# Altium footprint library Sensor Package.PcbLib: 43 footprints (part 2 of 3)
Each footprint in its own frame and in the unit in brackets; x right, y up, seen from the top. Pads: shape width x height; smd on the part's side, far side on the other; paste and mask are expansions set on the pad; w line width, h text height; cw(c..) or ccw(c..) is an arc to the next point about the centre after c.
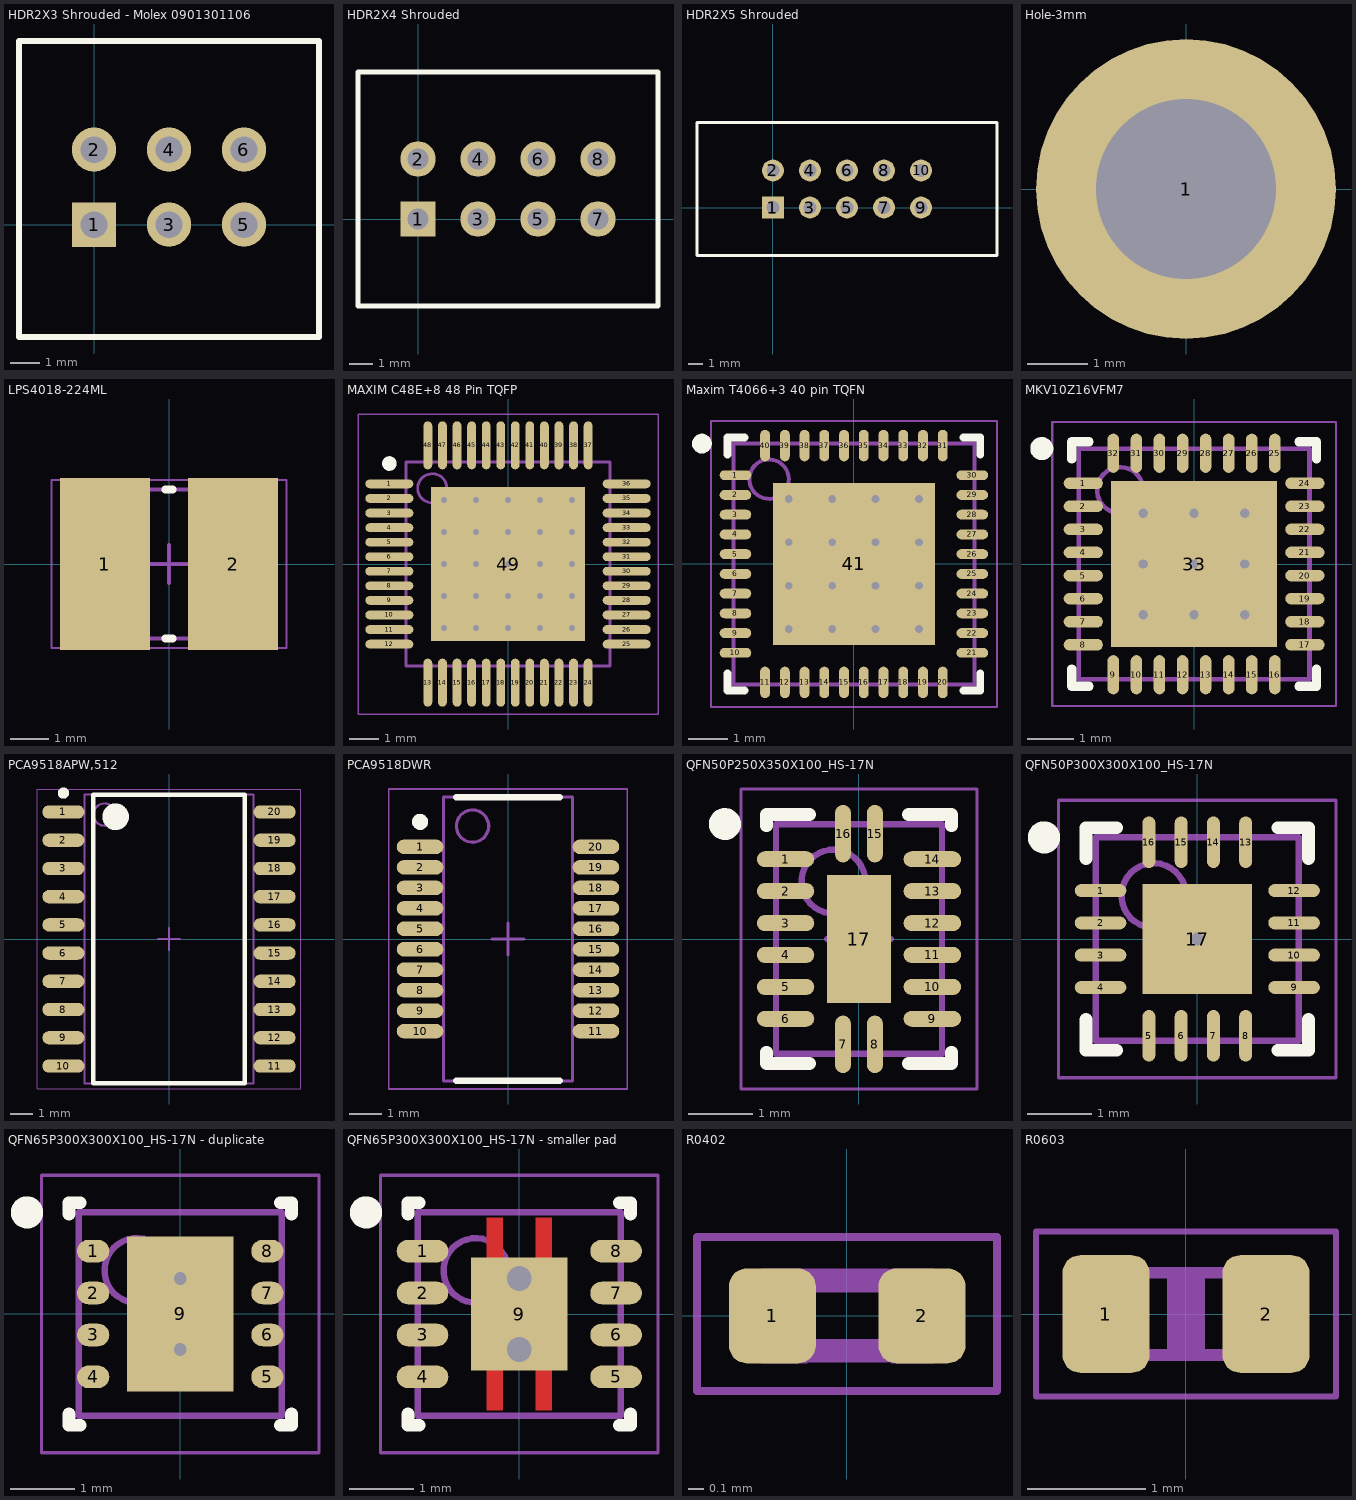
[diagram p1: the footprints below, top view; thin cyan lines are the x and y axes]

## HDR2X3 Shrouded - Molex 0901301106 [mm] "Connector; Header; 3x2 Position Molex 0901301106"
pads (6):
  rect 1.5x1.5 hole 0.9: 1(0,0)
  round 1.5 hole 0.9: 2(0,2.54) 3(2.54,0) 4(2.54,2.54) 5(5.08,0) 6(5.08,2.54)
Top Overlay:
  lines w0.2: -2.54,-3.81 7.62,-3.81 7.62,6.223 -2.54,6.223 -2.54,-3.81
3D body: height 8.35, standoff -5.45, extent -2.44,-3.654 7.52,6.096

## HDR2X4 Shrouded [mm] "Connector; Header; 4x2 Position"
pads (8):
  rect 1.5x1.5 hole 0.9: 1(0,0)
  round 1.5 hole 0.9: 2(0,2.54) 3(2.54,0) 4(2.54,2.54) 5(5.08,0) 6(5.08,2.54) 7(7.62,0) 8(7.62,2.54)
Top Overlay:
  lines w0.2: -2.54,-3.683 10.16,-3.683 10.16,6.223 -2.54,6.223 -2.54,-3.683
3D body: height 10.06, standoff -3.74, extent -2.44,-3.605 10.06,6.145

## HDR2X5 Shrouded [mm] "Connector; Header; 5x2 Position"
pads (10):
  rect 1.5x1.5 hole 0.9: 1(0,0)
  round 1.5 hole 0.9: 2(0,2.54) 3(2.54,0) 4(2.54,2.54) 5(5.08,0) 6(5.08,2.54) 7(7.62,0) 8(7.62,2.54) 9(10.16,0) 10(10.16,2.54)
Top Overlay:
  lines w0.2: -5.207,-3.302 -5.207,5.842 15.367,5.842 15.367,-3.302 -5.207,-3.302
3D body: height 9.31, standoff -3.39, extent -5.08,-3.175 15.24,5.715

## Hole-3mm [mm]
pads (1):
  round 5 hole 3: 1(0,0)

## LPS4018-224ML [mm] "Precision Wire Wound Inductor, 2-Leads, Body 4.40x3.90mm, IPC Medium Density"
height 1.7
pads (2):
  rect 2.35x4.5 smd: 1(-1.675,0) 2(1.675,0)
Top Overlay:
  lines w0.2: -0.1,-1.95 0.1,-1.95 ; -0.1,1.95 0.1,1.95
Mechanical 13:
  lines w0.1: -2.2,-1.95 2.2,-1.95 2.2,1.95 -2.2,1.95 -2.2,-1.95
Mechanical 15:
  lines w0.05: -3.075,-2.2 3.075,-2.2 3.075,2.2 -3.075,2.2 -3.075,-2.2
  lines w0.1: -0.5,0 0.5,0 ; 0,-0.5 0,0.5
3D body: height 1.7, standoff 0, extent -2.2,-1.95 2.2,1.95

## MAXIM C48E+8 48 Pin TQFP [mm] "TSQFP, 48-Leads, Body 7.00x7.00mm, Pitch 0.50mm, Thermal Pad 5.30x5.30mm, IPC Medium Density"
height 1.2
pads (49):
  oval 1.65x0.3 smd: 1(-4.075,2.75) 2(-4.075,2.25) 3(-4.075,1.75) 4(-4.075,1.25) 5(-4.075,0.75) 6(-4.075,0.25) 7(-4.075,-0.25) 8(-4.075,-0.75) 9(-4.075,-1.25) 10(-4.075,-1.75) 11(-4.075,-2.25) 12(-4.075,-2.75) 25(4.075,-2.75) 26(4.075,-2.25) 27(4.075,-1.75) 28(4.075,-1.25) 29(4.075,-0.75) 30(4.075,-0.25) 31(4.075,0.25) 32(4.075,0.75) 33(4.075,1.25) 34(4.075,1.75) 35(4.075,2.25) 36(4.075,2.75)
  oval 0.3x1.65 smd: 13(-2.75,-4.075) 14(-2.25,-4.075) 15(-1.75,-4.075) 16(-1.25,-4.075) 17(-0.75,-4.075) 18(-0.25,-4.075) 19(0.25,-4.075) 20(0.75,-4.075) 21(1.25,-4.075) 22(1.75,-4.075) 23(2.25,-4.075) 24(2.75,-4.075) 37(2.75,4.075) 38(2.25,4.075) 39(1.75,4.075) 40(1.25,4.075) 41(0.75,4.075) 42(0.25,4.075) 43(-0.25,4.075) 44(-0.75,4.075) 45(-1.25,4.075) 46(-1.75,4.075) 47(-2.25,4.075) 48(-2.75,4.075)
  rect 5.3x5.3 smd: 49(0,0)
via -2.2,2.2 diameter 0.5 hole 0.2
via -1.1,2.2 diameter 0.5 hole 0.2
via 0,2.2 diameter 0.5 hole 0.2
via 1.1,2.2 diameter 0.5 hole 0.2
via 2.2,2.2 diameter 0.5 hole 0.2
via -2.2,1.1 diameter 0.5 hole 0.2
via -1.1,1.1 diameter 0.5 hole 0.2
via 0,1.1 diameter 0.5 hole 0.2
via 1.1,1.1 diameter 0.5 hole 0.2
via 2.2,1.1 diameter 0.5 hole 0.2
via -2.2,0 diameter 0.5 hole 0.2
via -1.1,0 diameter 0.5 hole 0.2
via 0,0 diameter 0.5 hole 0.2
via 1.1,0 diameter 0.5 hole 0.2
via 2.2,0 diameter 0.5 hole 0.2
via -2.2,-1.1 diameter 0.5 hole 0.2
via -1.1,-1.1 diameter 0.5 hole 0.2
via 0,-1.1 diameter 0.5 hole 0.2
via 1.1,-1.1 diameter 0.5 hole 0.2
via 2.2,-1.1 diameter 0.5 hole 0.2
via -2.2,-2.2 diameter 0.5 hole 0.2
via -1.1,-2.2 diameter 0.5 hole 0.2
via 0,-2.2 diameter 0.5 hole 0.2
via 1.1,-2.2 diameter 0.5 hole 0.2
via 2.2,-2.2 diameter 0.5 hole 0.2
Top Overlay:
  circle w0.25: c-4.075,3.45 r0.125
Mechanical 13:
  circle w0.1: c-2.6,2.6 r0.5
  lines w0.1: -3.5,-3.5 -3.5,3.5 3.5,3.5 3.5,-3.5 -3.5,-3.5
Mechanical 15:
  lines w0.05: -5.15,-5.15 -5.15,5.15 5.15,5.15 5.15,-5.15 -5.15,-5.15
  lines w0.1: -0.5,0 0.5,0 ; 0,-0.5 0,0.5
3D body: height 1.2, standoff 0.05, extent -3.5,-3.5 3.5,3.5

## Maxim T4066+3 40 pin TQFN [mm] "QFN, 40-Leads, Body 6.00x6.00mm, Pitch 0.50mm, Thermal Pad 4.10x4.10mm, IPC Medium Density"
height 0.8
pads (41):
  oval 0.8x0.25 smd: 1(-3,2.25) 2(-3,1.75) 3(-3,1.25) 4(-3,0.75) 5(-3,0.25) 6(-3,-0.25) 7(-3,-0.75) 8(-3,-1.25) 9(-3,-1.75) 10(-3,-2.25) 21(3,-2.25) 22(3,-1.75) 23(3,-1.25) 24(3,-0.75) 25(3,-0.25) 26(3,0.25) 27(3,0.75) 28(3,1.25) 29(3,1.75) 30(3,2.25)
  oval 0.25x0.8 smd: 11(-2.25,-3) 12(-1.75,-3) 13(-1.25,-3) 14(-0.75,-3) 15(-0.25,-3) 16(0.25,-3) 17(0.75,-3) 18(1.25,-3) 19(1.75,-3) 20(2.25,-3) 31(2.25,3) 32(1.75,3) 33(1.25,3) 34(0.75,3) 35(0.25,3) 36(-0.25,3) 37(-0.75,3) 38(-1.25,3) 39(-1.75,3) 40(-2.25,3)
  rect 4.1x4.1 smd: 41(0,0)
via -1.65,1.65 diameter 0.5 hole 0.2
via -0.55,1.65 diameter 0.5 hole 0.2
via 0.55,1.65 diameter 0.5 hole 0.2
via 1.65,1.65 diameter 0.5 hole 0.2
via -1.65,0.55 diameter 0.5 hole 0.2
via -0.55,0.55 diameter 0.5 hole 0.2
via 0.55,0.55 diameter 0.5 hole 0.2
via 1.65,0.55 diameter 0.5 hole 0.2
via -1.65,-0.55 diameter 0.5 hole 0.2
via -0.55,-0.55 diameter 0.5 hole 0.2
via 0.55,-0.55 diameter 0.5 hole 0.2
via 1.65,-0.55 diameter 0.5 hole 0.2
via -1.65,-1.65 diameter 0.5 hole 0.2
via -0.55,-1.65 diameter 0.5 hole 0.2
via 0.55,-1.65 diameter 0.5 hole 0.2
via 1.65,-1.65 diameter 0.5 hole 0.2
Top Overlay:
  circle w0.25: c-3.85,3.05 r0.125
  lines w0.2: -3.2,-2.775 -3.2,-3.2 -2.775,-3.2 ; -3.2,2.775 -3.2,3.2 -2.775,3.2 ; 2.775,-3.2 3.2,-3.2 3.2,-2.775 ; 2.775,3.2 3.2,3.2 3.2,2.775
Mechanical 13:
  circle w0.1: c-2.15,2.15 r0.5
  lines w0.1: -3.05,-3.05 -3.05,3.05 3.05,3.05 3.05,-3.05 -3.05,-3.05
Mechanical 15:
  lines w0.05: -3.625,-3.625 -3.625,3.625 3.625,3.625 3.625,-3.625 -3.625,-3.625
  lines w0.1: -0.5,0 0.5,0 ; 0,-0.5 0,0.5
3D body: height 0.8, standoff 0.02, extent -3.05,-3.05 3.05,3.05

## MKV10Z16VFM7 [mm] "QFN, 32-Leads, Body 5.00x5.00mm, Pitch 0.50mm, Thermal Pad 3.60x3.60mm, IPC Medium Density"
height 1
pads (33):
  oval 0.85x0.25 smd: 1(-2.4,1.75) 2(-2.4,1.25) 3(-2.4,0.75) 4(-2.4,0.25) 5(-2.4,-0.25) 6(-2.4,-0.75) 7(-2.4,-1.25) 8(-2.4,-1.75) 17(2.4,-1.75) 18(2.4,-1.25) 19(2.4,-0.75) 20(2.4,-0.25) 21(2.4,0.25) 22(2.4,0.75) 23(2.4,1.25) 24(2.4,1.75)
  oval 0.25x0.85 smd: 9(-1.75,-2.4) 10(-1.25,-2.4) 11(-0.75,-2.4) 12(-0.25,-2.4) 13(0.25,-2.4) 14(0.75,-2.4) 15(1.25,-2.4) 16(1.75,-2.4) 25(1.75,2.4) 26(1.25,2.4) 27(0.75,2.4) 28(0.25,2.4) 29(-0.25,2.4) 30(-0.75,2.4) 31(-1.25,2.4) 32(-1.75,2.4)
  rect 3.6x3.6 smd: 33(0,0)
via -1.1,1.1 diameter 0.5 hole 0.2
via 0,1.1 diameter 0.5 hole 0.2
via 1.1,1.1 diameter 0.5 hole 0.2
via -1.1,0 diameter 0.5 hole 0.2
via 0,0 diameter 0.5 hole 0.2
via 1.1,0 diameter 0.5 hole 0.2
via -1.1,-1.1 diameter 0.5 hole 0.2
via 0,-1.1 diameter 0.5 hole 0.2
via 1.1,-1.1 diameter 0.5 hole 0.2
Top Overlay:
  circle w0.25: c-3.3,2.5 r0.125
  lines w0.2: -2.65,-2.275 -2.65,-2.65 -2.275,-2.65 ; -2.65,2.275 -2.65,2.65 -2.275,2.65 ; 2.275,-2.65 2.65,-2.65 2.65,-2.275 ; 2.275,2.65 2.65,2.65 2.65,2.275
Mechanical 13:
  circle w0.1: c-1.6,1.6 r0.5
  lines w0.1: -2.5,-2.5 -2.5,2.5 2.5,2.5 2.5,-2.5 -2.5,-2.5
Mechanical 15:
  lines w0.05: -3.075,-3.075 -3.075,3.075 3.075,3.075 3.075,-3.075 -3.075,-3.075
  lines w0.1: -0.5,0 0.5,0 ; 0,-0.5 0,0.5
3D body: height 1, standoff 0.05, extent -2.5,-2.5 2.5,2.5

## PCA9518APW,512 [mm] "SOIC, 20-Leads, Body 12.80x7.50mm, Pitch 1.27mm, IPC Medium Density"
height 2.65
pads (20):
  oval 1.9x0.6 smd: 1(-4.75,5.715) 2(-4.75,4.445) 3(-4.75,3.175) 4(-4.75,1.905) 5(-4.75,0.635) 6(-4.75,-0.635) 7(-4.75,-1.905) 8(-4.75,-3.175) 9(-4.75,-4.445) 10(-4.75,-5.715) 11(4.75,-5.715) 12(4.75,-4.445) 13(4.75,-3.175) 14(4.75,-1.905) 15(4.75,-0.635) 16(4.75,0.635) 17(4.75,1.905) 18(4.75,3.175) 19(4.75,4.445) 20(4.75,5.715)
Top Overlay:
  circle w0.25: c-4.75,6.565 r0.125
  circle w0.6: c-2.4,5.5 r0.3
  lines w0.2: -3.4,-6.5 -3.4,6.5 3.4,6.5 3.4,-6.5 -3.4,-6.5
Mechanical 13:
  circle w0.1: c-2.9,5.6 r0.5
  lines w0.1: -3.8,-6.5 -3.8,6.5 3.8,6.5 3.8,-6.5 -3.8,-6.5
Mechanical 15:
  lines w0.05: -5.925,-6.75 -5.925,6.75 5.925,6.75 5.925,-6.75 -5.925,-6.75
  lines w0.1: -0.5,0 0.5,0 ; 0,-0.5 0,0.5
3D body: height 2.65, standoff 0.1, extent -3.8,-6.5 3.8,6.5

## PCA9518DWR [mm] "SOP, 20-Leads, Body 8.65x3.90mm, Pitch 0.64mm, Thermal Pad 5.22x3.10mm, IPC Medium Density"
height 1.75
pads (20):
  oval 1.45x0.45 smd: 1(-2.725,2.857) 2(-2.725,2.222) 3(-2.725,1.587) 4(-2.725,0.953) 5(-2.725,0.318) 6(-2.725,-0.318) 7(-2.725,-0.953) 8(-2.725,-1.587) 9(-2.725,-2.222) 10(-2.725,-2.857) 11(2.725,-2.857) 12(2.725,-2.222) 13(2.725,-1.587) 14(2.725,-0.953) 15(2.725,-0.318) 16(2.725,0.318) 17(2.725,0.953) 18(2.725,1.587) 19(2.725,2.222) 20(2.725,2.857)
Top Overlay:
  circle w0.25: c-2.725,3.632 r0.125
  lines w0.2: -1.6,-4.4 1.6,-4.4 ; -1.6,4.4 1.6,4.4
Mechanical 13:
  circle w0.1: c-1.1,3.5 r0.5
  lines w0.1: -2,-4.4 -2,4.4 2,4.4 2,-4.4 -2,-4.4
Mechanical 15:
  lines w0.05: -3.7,-4.65 -3.7,4.65 3.7,4.65 3.7,-4.65 -3.7,-4.65
  lines w0.1: -0.5,0 0.5,0 ; 0,-0.5 0,0.5
3D body: height 1.75, standoff 0.1, extent -2,-4.4 2,4.4

## QFN50P250X350X100_HS-17N [mm] "QFN, 16-Leads, Body 2.50x3.50mm, Pitch 0.50mm, Thermal Pad 1.00x2.00mm, IPC Medium Density"
height 1
pads (17):
  oval 0.9x0.25 smd: 1(-1.15,1.25) 2(-1.15,0.75) 3(-1.15,0.25) 4(-1.15,-0.25) 5(-1.15,-0.75) 6(-1.15,-1.25) 9(1.15,-1.25) 10(1.15,-0.75) 11(1.15,-0.25) 12(1.15,0.25) 13(1.15,0.75) 14(1.15,1.25)
  oval 0.25x0.9 smd: 7(-0.25,-1.65) 8(0.25,-1.65) 15(0.25,1.65) 16(-0.25,1.65)
  rect 1x2 smd: 17(0,0)
Top Overlay:
  circle w0.25: c-2.1,1.8 r0.125
  lines w0.2: -1.45,-1.775 -1.45,-1.95 -0.775,-1.95 ; -1.45,1.775 -1.45,1.95 -0.775,1.95 ; 0.775,-1.95 1.45,-1.95 1.45,-1.775 ; 0.775,1.95 1.45,1.95 1.45,1.775
Mechanical 13:
  circle w0.1: c-0.4,0.9 r0.5
  lines w0.1: -1.3,-1.8 -1.3,1.8 1.3,1.8 1.3,-1.8 -1.3,-1.8
Mechanical 15:
  lines w0.05: -1.85,-2.35 -1.85,2.35 1.85,2.35 1.85,-2.35 -1.85,-2.35
  lines w0.1: -0.5,0 0.5,0 ; 0,-0.5 0,0.5
3D body: height 1, standoff 0.05, extent -1.3,-1.8 1.3,1.8

## QFN50P300X300X100_HS-17N [mm] "QFN, 16-Leads, Body 3.00x3.00mm, Pitch 0.50mm, Thermal Pad 1.70x1.70mm, IPC Medium Density"
height 1
pads (17):
  oval 0.8x0.2 smd: 1(-1.5,0.75) 2(-1.5,0.25) 3(-1.5,-0.25) 4(-1.5,-0.75) 9(1.5,-0.75) 10(1.5,-0.25) 11(1.5,0.25) 12(1.5,0.75)
  oval 0.2x0.8 smd: 5(-0.75,-1.5) 6(-0.25,-1.5) 7(0.25,-1.5) 8(0.75,-1.5) 13(0.75,1.5) 14(0.25,1.5) 15(-0.25,1.5) 16(-0.75,1.5)
  rect 1.7x1.7 smd: 17(0,0)
via 0,0 diameter 0.5 hole 0.2
Top Overlay:
  circle w0.25: c-2.375,1.575 r0.125
  lines w0.2: -1.725,-1.25 -1.725,-1.725 -1.25,-1.725 ; -1.725,1.25 -1.725,1.725 -1.25,1.725 ; 1.25,-1.725 1.725,-1.725 1.725,-1.25 ; 1.25,1.725 1.725,1.725 1.725,1.25
Mechanical 13:
  circle w0.1: c-0.675,0.675 r0.5
  lines w0.1: -1.575,-1.575 -1.575,1.575 1.575,1.575 1.575,-1.575 -1.575,-1.575
Mechanical 15:
  lines w0.05: -2.15,-2.15 -2.15,2.15 2.15,2.15 2.15,-2.15 -2.15,-2.15
  lines w0.1: -0.5,0 0.5,0 ; 0,-0.5 0,0.5
3D body: height 1, standoff 0.05, extent -1.575,-1.575 1.575,1.575

## QFN65P300X300X100_HS-17N - duplicate [mm] "QFN, 16-Leads, Body 3.00x3.00mm, Pitch 0.65mm, Thermal Pad 2.40x1.65mm, IPC Medium Density"
height 1
pads (9):
  oval 0.5x0.35 smd: 1(-1.35,0.975) 2(-1.35,0.325) 3(-1.35,-0.325) 4(-1.35,-0.975) 5(1.35,-0.975) 6(1.35,-0.325) 7(1.35,0.325) 8(1.35,0.975)
  rect 1.65x2.4 smd: 9(0,0)
via 0,0.55 diameter 0.5 hole 0.2
via 0,-0.55 diameter 0.5 hole 0.2
Top Overlay:
  circle w0.25: c-2.375,1.575 r0.125
  lines w0.2: -1.725,-1.55 -1.725,-1.725 -1.55,-1.725 ; -1.725,1.55 -1.725,1.725 -1.55,1.725 ; 1.55,-1.725 1.725,-1.725 1.725,-1.55 ; 1.55,1.725 1.725,1.725 1.725,1.55
Mechanical 13:
  circle w0.1: c-0.675,0.675 r0.5
  lines w0.1: -1.575,-1.575 -1.575,1.575 1.575,1.575 1.575,-1.575 -1.575,-1.575
Mechanical 15:
  lines w0.05: -2.15,-2.15 -2.15,2.15 2.15,2.15 2.15,-2.15 -2.15,-2.15
  lines w0.1: -0.5,0 0.5,0 ; 0,-0.5 0,0.5
3D body: height 1, standoff 0.05, extent -1.575,-1.575 1.575,1.575

## QFN65P300X300X100_HS-17N - smaller pad [mm] "QFN, 16-Leads, Body 3.00x3.00mm, Pitch 0.65mm, Thermal Pad 1.75x1.50mm, IPC Medium Density"
height 1
pads (9):
  oval 0.8x0.35 smd: 1(-1.5,0.975) 2(-1.5,0.325) 3(-1.5,-0.325) 4(-1.5,-0.975) 5(1.5,-0.975) 6(1.5,-0.325) 7(1.5,0.325) 8(1.5,0.975)
  rect 1.5x1.75 smd: 9(0,0)
via 0,0.55 diameter 0.635 hole 0.381
via 0,-0.55 diameter 0.635 hole 0.381
Top Layer:
  rectangle: -0.508,-1.499 -0.254,-0.864
  rectangle: 0.254,-1.499 0.508,-0.864
  rectangle: 0.254,0.864 0.508,1.499
  rectangle: -0.508,0.864 -0.254,1.499
Top Overlay:
  circle w0.25: c-2.375,1.575 r0.125
  lines w0.2: -1.725,-1.55 -1.725,-1.725 -1.55,-1.725 ; -1.725,1.55 -1.725,1.725 -1.55,1.725 ; 1.55,-1.725 1.725,-1.725 1.725,-1.55 ; 1.55,1.725 1.725,1.725 1.725,1.55
Mechanical 13:
  circle w0.1: c-0.675,0.675 r0.5
  lines w0.1: -1.575,-1.575 -1.575,1.575 1.575,1.575 1.575,-1.575 -1.575,-1.575
Mechanical 15:
  lines w0.05: -2.15,-2.15 -2.15,2.15 2.15,2.15 2.15,-2.15 -2.15,-2.15
  lines w0.1: -0.5,0 0.5,0 ; 0,-0.5 0,0.5
3D body: height 1, standoff 0.05, extent -1.575,-1.575 1.575,1.575

## R0402 [mil]
pads (2):
  rrect40% 22x24 smd: 1(-18.9,0) 2(19,0)
Mechanical 8:
  rectangle: -21.81,-12 -10,12
  rectangle: 11,-12 22,12
  lines w6: -9.65,-8.82 10,-8.82 ; -9.65,9 10,9
Mechanical 15:
  lines w2: -37.99,-19.02 38,-19.02 38,20 -37.99,20 -37.99,-19.02
3D body: height 13.78, standoff 0, extent -20,-10 20,10

## R0603 [mm]
pads (2):
  rrect40% 0.74x1 smd: 1(-0.68,0) 2(0.68,0)
Mechanical 6:
  rectangle: -0.16,-0.3 0.16,0.3
Mechanical 8:
  rectangle: 0.45,-0.4 0.8,0.4
  rectangle: -0.8,-0.4 -0.45,0.4
  lines w0.1: -0.45,0.35 0.45,0.35
  lines w0.102: -0.45,-0.35 0.45,-0.35
Mechanical 15:
  lines w0.051: -1.275,-0.7 -1.275,0.7 1.275,0.7 1.275,-0.7 -1.275,-0.7
3D body: height 0.8, standoff 0, extent -0.8,-0.4 0.8,0.4